# Altium schematic symbol library USB-A-2.SchLib: 1 symbol
Pins are listed as number, name and electrical type; pins without a type are passive.

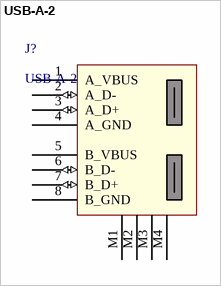
[diagram p0: symbol USB-A-2]

## USB-A-2
designator J?
pins: 1 A_VBUS (power), 2 A_D- (io), 3 A_D+ (io), 4 A_GND (power), 5 B_VBUS (power), 6 B_D- (io), 7 B_D+ (io), 8 B_GND (power), M1, M2, M3, M4